# EAGLE library part STM32F407V (library old-4ms-main-parts)
STM32F407 100 pin LQFP reviewed: YES tested: YES
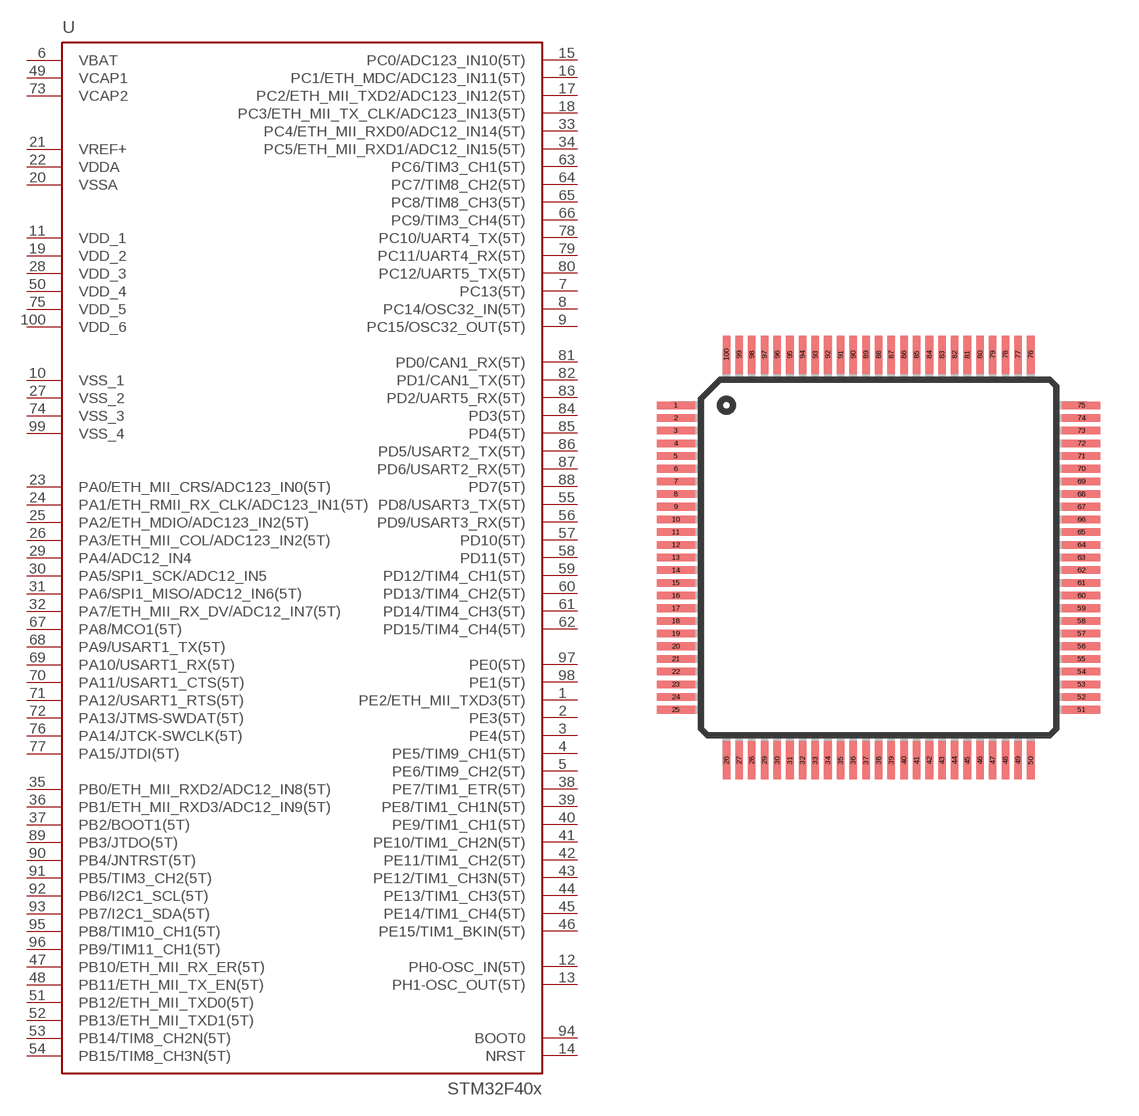
[diagram p30: symbol with the pads of TQFP100; footprint TQFP100]

Designator prefix -

## STM32F407V  [TQFP100]
1  PE2/ETH_MII_TXD3(5T)
2  PE3(5T)
3  PE4(5T)
4  PE5/TIM9_CH1(5T)
5  PE6/TIM9_CH2(5T)
6  VBAT
7  PC13(5T)
8  PC14/OSC32_IN(5T)
9  PC15/OSC32_OUT(5T)
10  VSS_1
11  VDD_1
12  PH0-OSC_IN(5T)
13  PH1-OSC_OUT(5T)
14  NRST
15  PC0/ADC123_IN10(5T)
16  PC1/ETH_MDC/ADC123_IN11(5T)
17  PC2/ETH_MII_TXD2/ADC123_IN12(5T)
18  PC3/ETH_MII_TX_CLK/ADC123_IN13(5T)
19  VDD_2
20  VSSA
21  VREF+
22  VDDA
23  PA0/ETH_MII_CRS/ADC123_IN0(5T)
24  PA1/ETH_RMII_RX_CLK/ADC123_IN1(5T)
25  PA2/ETH_MDIO/ADC123_IN2(5T)
26  PA3/ETH_MII_COL/ADC123_IN2(5T)
27  VSS_2
28  VDD_3
29  PA4/ADC12_IN4
30  PA5/SPI1_SCK/ADC12_IN5
31  PA6/SPI1_MISO/ADC12_IN6(5T)
32  PA7/ETH_MII_RX_DV/ADC12_IN7(5T)
33  PC4/ETH_MII_RXD0/ADC12_IN14(5T)
34  PC5/ETH_MII_RXD1/ADC12_IN15(5T)
35  PB0/ETH_MII_RXD2/ADC12_IN8(5T)
36  PB1/ETH_MII_RXD3/ADC12_IN9(5T)
37  PB2/BOOT1(5T)
38  PE7/TIM1_ETR(5T)
39  PE8/TIM1_CH1N(5T)
40  PE9/TIM1_CH1(5T)
41  PE10/TIM1_CH2N(5T)
42  PE11/TIM1_CH2(5T)
43  PE12/TIM1_CH3N(5T)
44  PE13/TIM1_CH3(5T)
45  PE14/TIM1_CH4(5T)
46  PE15/TIM1_BKIN(5T)
47  PB10/ETH_MII_RX_ER(5T)
48  PB11/ETH_MII_TX_EN(5T)
49  VCAP1
50  VDD_4
51  PB12/ETH_MII_TXD0(5T)
52  PB13/ETH_MII_TXD1(5T)
53  PB14/TIM8_CH2N(5T)
54  PB15/TIM8_CH3N(5T)
55  PD8/USART3_TX(5T)
56  PD9/USART3_RX(5T)
57  PD10(5T)
58  PD11(5T)
59  PD12/TIM4_CH1(5T)
60  PD13/TIM4_CH2(5T)
61  PD14/TIM4_CH3(5T)
62  PD15/TIM4_CH4(5T)
63  PC6/TIM3_CH1(5T)
64  PC7/TIM8_CH2(5T)
65  PC8/TIM8_CH3(5T)
66  PC9/TIM3_CH4(5T)
67  PA8/MCO1(5T)
68  PA9/USART1_TX(5T)
69  PA10/USART1_RX(5T)
70  PA11/USART1_CTS(5T)
71  PA12/USART1_RTS(5T)
72  PA13/JTMS-SWDAT(5T)
73  VCAP2
74  VSS_3
75  VDD_5
76  PA14/JTCK-SWCLK(5T)
77  PA15/JTDI(5T)
78  PC10/UART4_TX(5T)
79  PC11/UART4_RX(5T)
80  PC12/UART5_TX(5T)
81  PD0/CAN1_RX(5T)
82  PD1/CAN1_TX(5T)
83  PD2/UART5_RX(5T)
84  PD3(5T)
85  PD4(5T)
86  PD5/USART2_TX(5T)
87  PD6/USART2_RX(5T)
88  PD7(5T)
89  PB3/JTDO(5T)
90  PB4/JNTRST(5T)
91  PB5/TIM3_CH2(5T)
92  PB6/I2C1_SCL(5T)
93  PB7/I2C1_SDA(5T)
94  BOOT0
95  PB8/TIM10_CH1(5T)
96  PB9/TIM11_CH1(5T)
97  PE0(5T)
98  PE1(5T)
99  VSS_4
100  VDD_6

## Footprint TQFP100 (pad centres in mm)
smd 1.5 x 0.3: 1 -8,6; 2 -8,5.5; 3 -8,5; 4 -8,4.5; 5 -8,4; 6 -8,3.5; 7 -8,3; 8 -8,2.5; 9 -8,2; 10 -8,1.5; 11 -8,1; 12 -8,0.5; 13 -8,0; 14 -8,-0.5; 15 -8,-1; 16 -8,-1.5; 17 -8,-2; 18 -8,-2.5; 19 -8,-3; 20 -8,-3.5; 21 -8,-4; 22 -8,-4.5; 23 -8,-5; 24 -8,-5.5; 25 -8,-6; 51 8,-6; 52 8,-5.5; 53 8,-5; 54 8,-4.5; 55 8,-4; 56 8,-3.5; 57 8,-3; 58 8,-2.5; 59 8,-2; 60 8,-1.5; 61 8,-1; 62 8,-0.5; 63 8,0; 64 8,0.5; 65 8,1; 66 8,1.5; 67 8,2; 68 8,2.5; 69 8,3; 70 8,3.5; 71 8,4; 72 8,4.5; 73 8,5; 74 8,5.5; 75 8,6
smd 0.3 x 1.5: 26 -6,-8; 27 -5.5,-8; 28 -5,-8; 29 -4.5,-8; 30 -4,-8; 31 -3.5,-8; 32 -3,-8; 33 -2.5,-8; 34 -2,-8; 35 -1.5,-8; 36 -1,-8; 37 -0.5,-8; 38 0,-8; 39 0.5,-8; 40 1,-8; 41 1.5,-8; 42 2,-8; 43 2.5,-8; 44 3,-8; 45 3.5,-8; 46 4,-8; 47 4.5,-8; 48 5,-8; 49 5.5,-8; 50 6,-8; 76 6,8; 77 5.5,8; 78 5,8; 79 4.5,8; 80 4,8; 81 3.5,8; 82 3,8; 83 2.5,8; 84 2,8; 85 1.5,8; 86 1,8; 87 0.5,8; 88 0,8; 89 -0.5,8; 90 -1,8; 91 -1.5,8; 92 -2,8; 93 -2.5,8; 94 -3,8; 95 -3.5,8; 96 -4,8; 97 -4.5,8; 98 -5,8; 99 -5.5,8; 100 -6,8